# Altium footprint library Оптопары.PcbLib: 7 footprints
Each footprint in its own frame and in the unit in brackets; x right, y up, seen from the top. Pads: shape width x height; smd on the part's side, far side on the other; paste and mask are expansions set on the pad; w line width, h text height; cw(c..) or ccw(c..) is an arc to the next point about the centre after c.
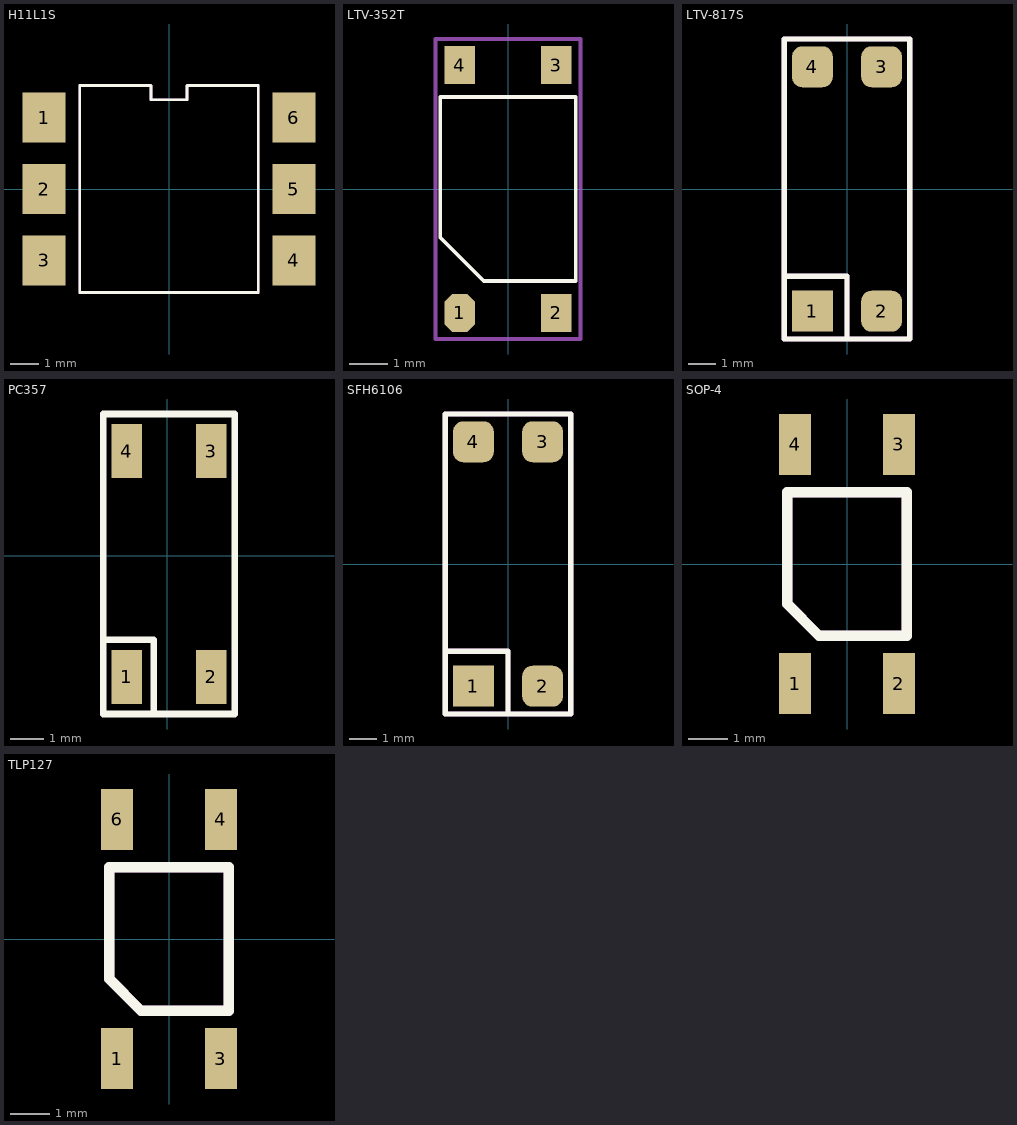
[diagram p0: the footprints below, top view; thin cyan lines are the x and y axes]

## H11L1S [mm]
pads (6):
  rect 1.52x1.78 smd: 1(-4.445,2.54) 2(-4.445,0) 3(-4.445,-2.54) 4(4.445,-2.54) 5(4.445,0) 6(4.445,2.54)
Top Overlay:
  lines w0.1: -3.175,-3.683 3.175,-3.683 3.175,3.683 0.635,3.683 0.635,3.175 -0.635,3.175 -0.635,3.683 -3.175,3.683 -3.175,-3.683
Top Assy:
  lines w0.1: -3.175,-3.683 -3.175,3.683 -0.635,3.683 -0.635,3.175 0.635,3.175 0.635,3.683 3.175,3.683 3.175,-3.683 -3.175,-3.683
  text ".Designator" at -3.513,-0.073 h1.52
3D body "h11l1s_ta_-v.stp": height 4.33, standoff 0.02, extent -5.075,-3.56 5.075,3.56

## LTV-352T [mm]
pads (4):
  oct 0.8x1 smd: 1(-1.27,-3.25)
  rect 0.8x1 smd: 2(1.27,-3.25) 3(1.27,3.25) 4(-1.27,3.25)
Top Overlay:
  lines w0.1: -1.778,-1.27 -1.778,2.413 1.778,2.413 1.778,-2.413 -0.635,-2.413 -1.778,-1.27
Top Assy:
  lines w0.1: -1.905,-3.937 -1.905,3.937 1.905,3.937 1.905,-3.937 -1.905,-3.937
  text ".Designator" at -3.513,0 h1.52
3D body "LTV-352T.stp": height 1.99, standoff -0.12, extent -1.8,-3.527 1.8,3.527

## LTV-817S [mm]
pads (4):
  rect 1.5x1.5 smd: 1(-1.27,-4.48)
  rrect50% 1.5x1.5 smd: 2(1.27,-4.48) 3(1.27,4.48) 4(-1.27,4.48)
Top Overlay:
  lines w0.2: -2.3,-3.2 0,-3.2 0,-5.5 ; -2.3,-5.5 2.3,-5.5 2.3,5.5 -2.3,5.5 -2.3,-5.5
Top Assy:
  lines w0.2: -2.3,-3.2 0,-3.2 0,-5.5 ; -2.3,-5.5 2.3,-5.5 2.3,5.5 -2.3,5.5 -2.3,-5.5
  text ".Designator" at -1.1,-0.2 h1.52
3D body "LTV-817S.step": height 3.76, standoff 0, extent -2.297,-5.08 2.3,5.08

## PC357 [mm]
pads (4):
  rect 0.9x1.6 smd: 1(-1.2,-3.6) 2(1.3,-3.6) 3(1.3,3.1) 4(-1.2,3.1)
Top Overlay:
  lines w0.2: -1.9,-2.5 -0.4,-2.5 -0.4,-4.7 ; -1.9,-4.7 2,-4.7 2,4.2 -1.9,4.2 -1.9,-4.7
Top Assy:
  lines w0.1: -1.9,-4.7 2,-4.7 2,4.2 -1.9,4.2 -1.9,-4.7
  text ".Designator" at -0.7,-0.3 h1.52

## SFH6106 [mm]
pads (4):
  rect 1.5x1.5 smd: 1(-1.27,-4.48)
  rrect50% 1.5x1.5 smd: 2(1.27,-4.48) 3(1.27,4.48) 4(-1.27,4.48)
Top Overlay:
  lines w0.2: -2.3,-3.2 0,-3.2 0,-5.5 ; -2.3,-5.5 2.3,-5.5 2.3,5.5 -2.3,5.5 -2.3,-5.5
Top Assy:
  lines w0.2: -2.3,-3.2 0,-3.2 0,-5.5 ; -2.3,-5.5 2.3,-5.5 2.3,5.5 -2.3,5.5 -2.3,-5.5
  text ".Designator" at -1.1,-0.2 h1.52
3D body "SFH6106.step": height 3.95, standoff 0.05, extent -2.416,-4.953 2.416,5.077

## SOP-4 [mm]
pads (4):
  rect 0.8x1.524 smd: 1(-1.3,-3) 2(1.3,-3) 3(1.3,3) 4(-1.3,3)
Top Overlay:
  lines w0.254: -1.5,-1 -1.5,1.8 1.5,1.8 1.5,-1.8 -0.7,-1.8 -1.5,-1
Top Assy:
  lines w0.254: -1.5,-1 -0.7,-1.8 1.5,-1.8 1.5,1.8 -1.5,1.8 -1.5,-1
3D body "TLP127.step": height 2.55, standoff 0, extent -1.8,-3.405 1.8,3.405

## TLP127 [mm]
pads (4):
  rect 0.8x1.524 smd: 1(-1.3,-3) 3(1.3,-3) 4(1.3,3) 6(-1.3,3)
Top Overlay:
  lines w0.254: -1.5,-1 -1.5,1.8 1.5,1.8 1.5,-1.8 -0.7,-1.8 -1.5,-1
Top Assy:
  lines w0.254: -1.5,-1 -0.7,-1.8 1.5,-1.8 1.5,1.8 -1.5,1.8 -1.5,-1
3D body "TLP127.step": height 2.55, standoff 0, extent -1.8,-3.405 1.8,3.405